# Altium schematic symbol library Operational 运放.SchLib: 101 symbols
Pins are listed as number, name and electrical type; pins without a type are passive.

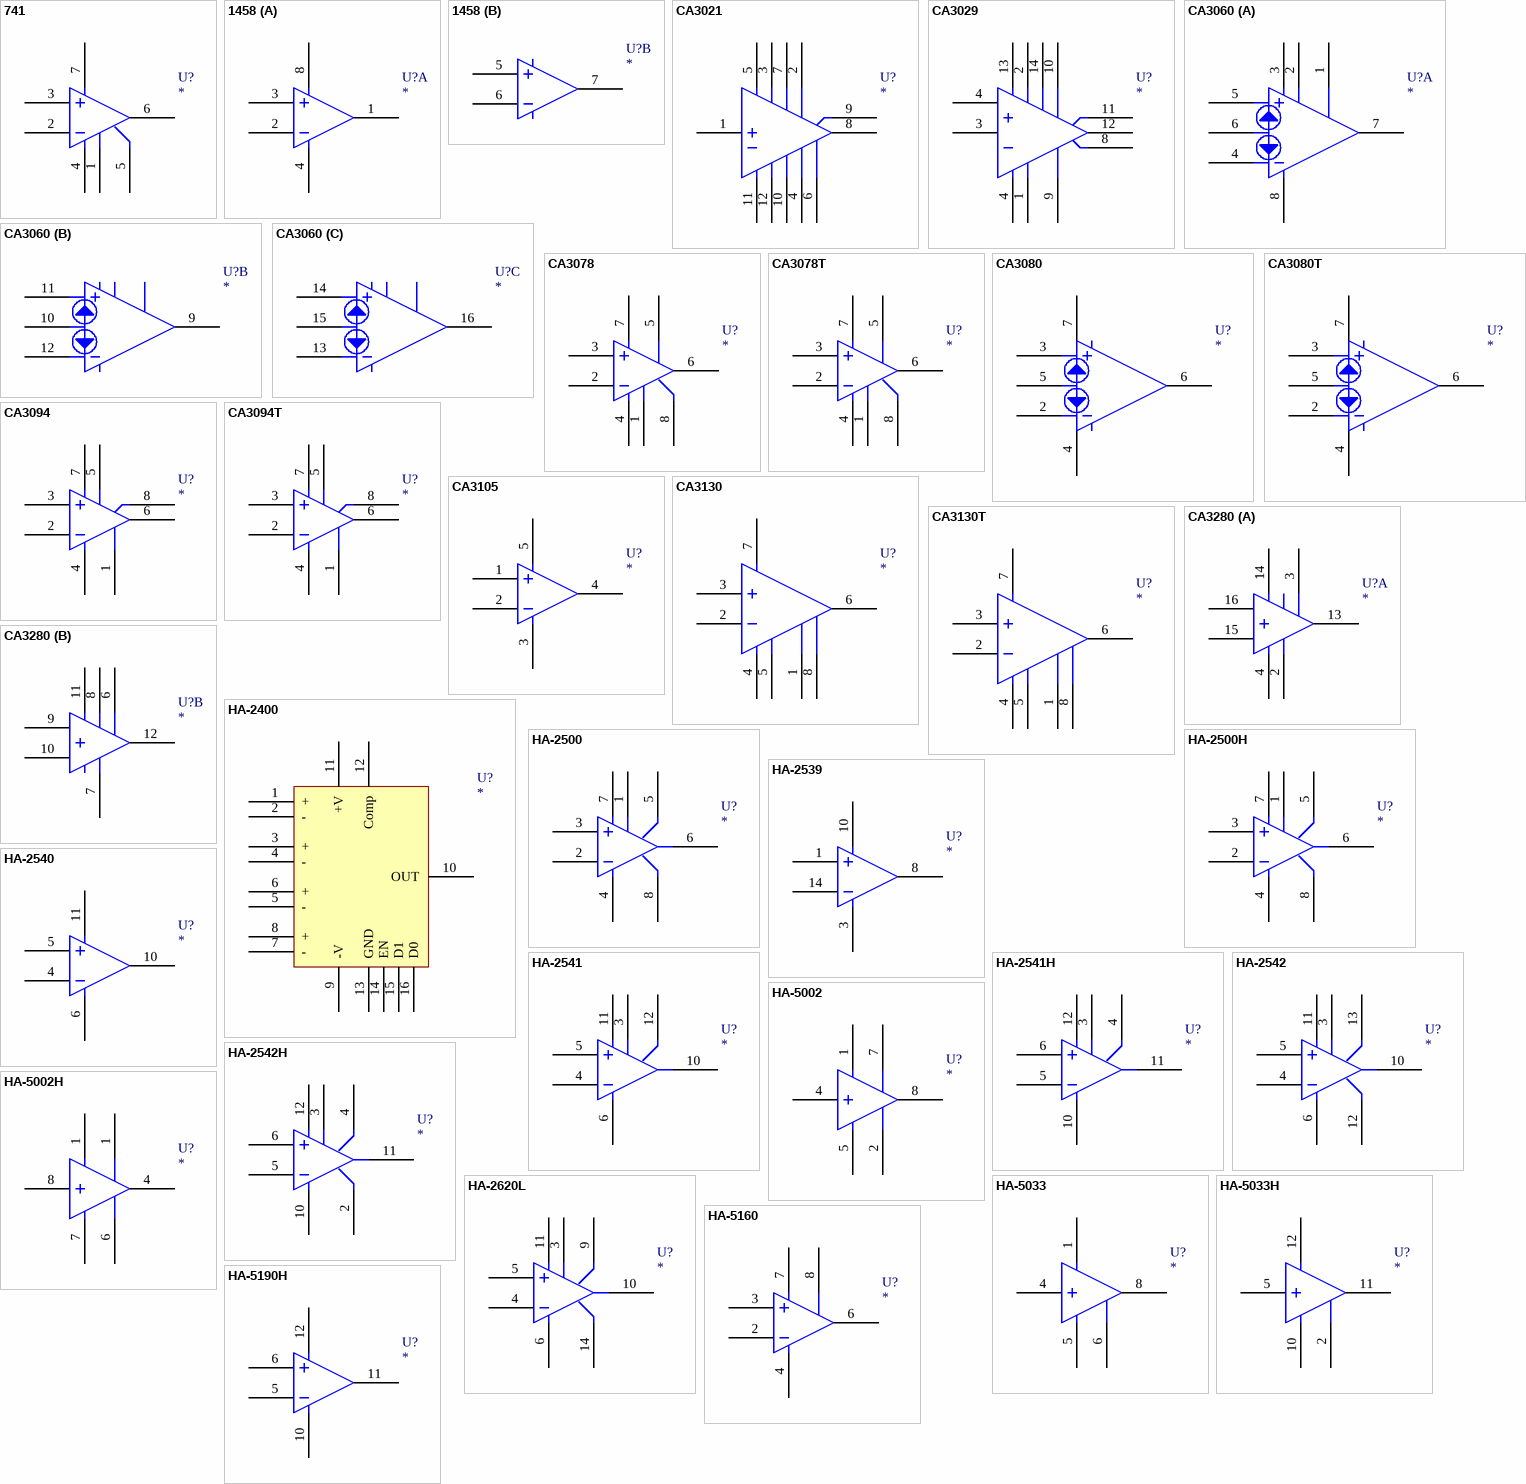
[diagram p0: symbols 741 to HA-5190H]

## 741
designator U?
footprint DIP-8
pins: 1, 2, 3, 4, 5, 6, 7

## 1458
designator U?
footprint DIP-8
part A pins: 1, 2, 3, 4, 8
part B pins: 5, 6, 7

## CA3021
designator U?
footprint METAL12
pins: 1, 2, 3, 4, 5, 6, 7, 8, 9, 10, 11, 12

## CA3029
designator U?
footprint DIP-14
pins: 1, 2, 3, 4, 4, 8, 9, 10, 11, 12, 13, 14

## CA3060
designator U?
footprint DIP-16
part A pins: 1, 2, 3, 4, 5, 6, 7, 8
part B pins: 9, 10, 11, 12
part C pins: 13, 14, 15, 16

## CA3078
designator U?
footprint DIP-8
pins: 1, 2, 3, 4, 5, 6, 7, 8

## CA3078T
designator U?
footprint METAL8
pins: 1, 2, 3, 4, 5, 6, 7, 8

## CA3080
designator U?
footprint DIP-8
pins: 2, 3, 4, 5, 6, 7

## CA3080T
designator U?
footprint METAL8
pins: 2, 3, 4, 5, 6, 7

## CA3094
designator U?
footprint DIP-8
pins: 1, 2, 3, 4, 5, 6, 7, 8

## CA3094T
designator U?
footprint METAL8
pins: 1, 2, 3, 4, 5, 6, 7, 8

## CA3105
designator U?
footprint TO-220-5S
pins: 1, 2, 3, 4, 5

## CA3130
designator U?
footprint DIP-8
pins: 1, 2, 3, 4, 5, 6, 7, 8

## CA3130T
designator U?
footprint METAL8
pins: 1, 2, 3, 4, 5, 6, 7, 8

## CA3280
designator U?
footprint DIP-16
part A pins: 1, 2, 3, 4, 13, 14, 15, 16
part B pins: 6, 7, 8, 9, 10, 11, 12

## HA-2400
designator U?
footprint DIP-16
pins: 1 +, 2 -, 3 +, 4 -, 5 -, 6 +, 7 -, 8 +, 9 -V, 10 OUT, 11 +V, 12 Comp, 13 GND, 14 EN, 15 D1, 16 D0

## HA-2500
designator U?
footprint DIP-8
pins: 1, 2, 3, 4, 5, 6, 7, 8

## HA-2500H
designator U?
footprint METAL8
pins: 1, 2, 3, 4, 5, 6, 7, 8

## HA-2539
designator U?
footprint DIP-14
pins: 1, 3, 8, 10, 14

## HA-2540
designator U?
footprint DIP-14
pins: 4, 5, 6, 10, 11

## HA-2541
designator U?
footprint DIP-14
pins: 3, 4, 5, 6, 10, 11, 12

## HA-2541H
designator U?
footprint METAL12
pins: 3, 4, 5, 6, 10, 11, 12

## HA-2542
designator U?
footprint DIP-14
pins: 3, 4, 5, 6, 10, 11, 12, 13

## HA-2542H
designator U?
footprint METAL12
pins: 2, 3, 4, 5, 6, 10, 11, 12

## HA-2620L
designator U?
footprint DIP-14
pins: 3, 4, 5, 6, 9, 10, 11, 14

## HA-5002
designator U?
footprint DIP-8
pins: 1, 2, 4, 5, 7, 8

## HA-5002H
designator U?
footprint METAL8
pins: 1, 1, 4, 6, 7, 8

## HA-5033
designator U?
footprint DIP-8
pins: 1, 4, 5, 6, 8

## HA-5033H
designator U?
footprint METAL12
pins: 2, 5, 10, 11, 12

## HA-5160
designator U?
footprint METAL8
pins: 2, 3, 4, 6, 7, 8

## HA-5190H
designator U?
footprint METAL12
pins: 5, 6, 10, 11, 12

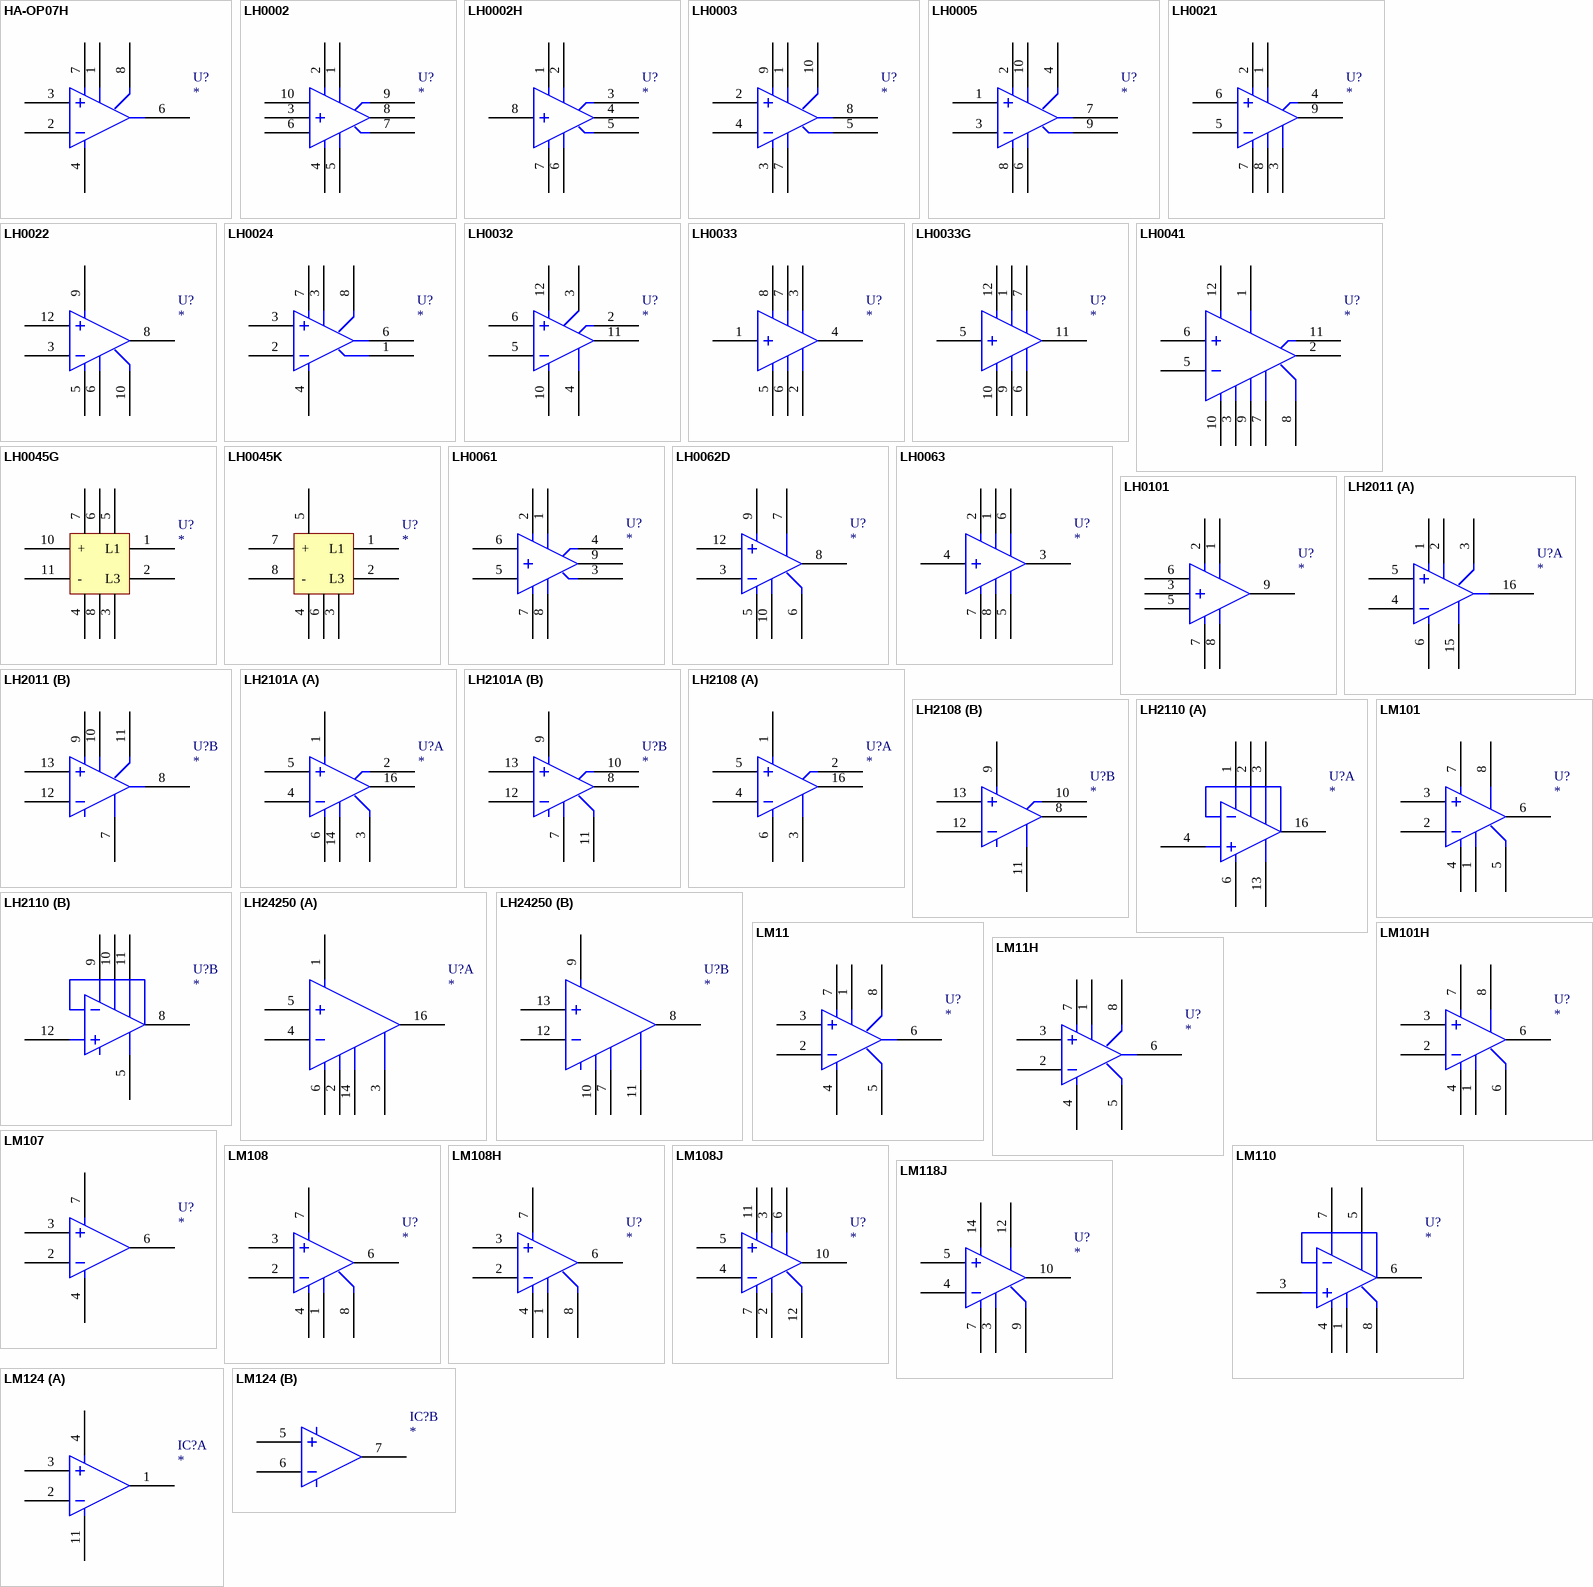
[diagram p1: symbols HA-OP07H to LM124]

## HA-OP07H
designator U?
footprint METAL8
pins: 1, 2, 3, 4, 6, 7, 8

## LH0002
designator U?
footprint DIP-10
pins: 1, 2, 3, 4, 5, 6, 7, 8, 9, 10

## LH0002H
designator U?
footprint METAL8
pins: 1, 2, 3, 4, 5, 6, 7, 8

## LH0003
designator U?
footprint METAL10
pins: 1, 2, 3, 4, 5, 7, 8, 9, 10

## LH0005
designator U?
footprint METAL10
pins: 1, 2, 3, 4, 6, 7, 8, 9, 10

## LH0021
designator U?
footprint TO-3
pins: 1, 2, 3, 4, 5, 6, 7, 8, 9

## LH0022
designator U?
footprint DIP-14
pins: 3, 5, 6, 8, 9, 10, 12

## LH0024
designator U?
footprint METAL8
pins: 1, 2, 3, 3, 4, 6, 7, 8

## LH0032
designator U?
footprint METAL12
pins: 2, 3, 4, 5, 6, 10, 11, 12

## LH0033
designator U?
footprint DIP-8
pins: 1, 2, 3, 4, 5, 6, 7, 8

## LH0033G
designator U?
footprint METAL12
pins: 1, 5, 6, 7, 9, 10, 11, 12

## LH0041
designator U?
footprint METAL12
pins: 1, 2, 3, 5, 6, 7, 8, 9, 10, 11, 12

## LH0045G
designator U?
footprint METAL12
pins: 1 L1, 2 L3, 3, 4, 5, 6, 7, 8, 10 +, 11 -

## LH0045K
designator U?
footprint TO-3
pins: 1 L1, 2 L3, 3, 4, 5, 6, 7 +, 8 -

## LH0061
designator U?
footprint TO-3
pins: 1, 2, 3, 4, 5, 6, 7, 8, 9

## LH0062D
designator U?
footprint DIP-14
pins: 3, 5, 6, 7, 8, 9, 10, 12

## LH0063
designator U?
footprint TO-3
pins: 1, 2, 3, 4, 5, 6, 7, 8

## LH0101
designator U?
footprint TO-3
pins: 1, 2, 3, 5, 6, 7, 8, 9

## LH2011
designator U?
footprint DIP-16
part A pins: 1, 2, 3, 4, 5, 6, 15, 16
part B pins: 7, 8, 9, 10, 11, 12, 13

## LH2101A
designator U?
footprint DIP-16
part A pins: 1, 2, 3, 4, 5, 6, 14, 16
part B pins: 7, 8, 9, 10, 11, 12, 13

## LH2108
designator U?
footprint DIP-16
part A pins: 1, 2, 3, 4, 5, 6, 16
part B pins: 8, 9, 10, 11, 12, 13

## LH2110
designator U?
footprint DIP-16
part A pins: 1, 2, 3, 4, 6, 13, 16
part B pins: 5, 8, 9, 10, 11, 12

## LH24250
designator U?
footprint DIP-16
part A pins: 1, 2, 3, 4, 5, 6, 14, 16
part B pins: 7, 8, 9, 10, 11, 12, 13

## LM11
designator U?
footprint DIP-8
pins: 1, 2, 3, 4, 5, 6, 7, 8

## LM11H
designator U?
footprint METAL8
pins: 1, 2, 3, 4, 5, 6, 7, 8

## LM101
designator U?
footprint DIP-8
pins: 1, 2, 3, 4, 5, 6, 7, 8

## LM101H
designator U?
footprint METAL8
pins: 1, 2, 3, 4, 6, 6, 7, 8

## LM107
designator U?
footprint DIP-8
pins: 2, 3, 4, 6, 7

## LM108
designator U?
footprint DIP-8
pins: 1, 2, 3, 4, 6, 7, 8

## LM108H
designator U?
footprint METAL8
pins: 1, 2, 3, 4, 6, 7, 8

## LM108J
designator U?
footprint DIP-14
pins: 2, 3, 4, 5, 6, 7, 10, 11, 12

## LM110
designator U?
footprint DIP-8
pins: 1, 3, 4, 5, 6, 7, 8

## LM118J
designator U?
footprint DIP-14
pins: 3, 4, 5, 7, 9, 10, 12, 14

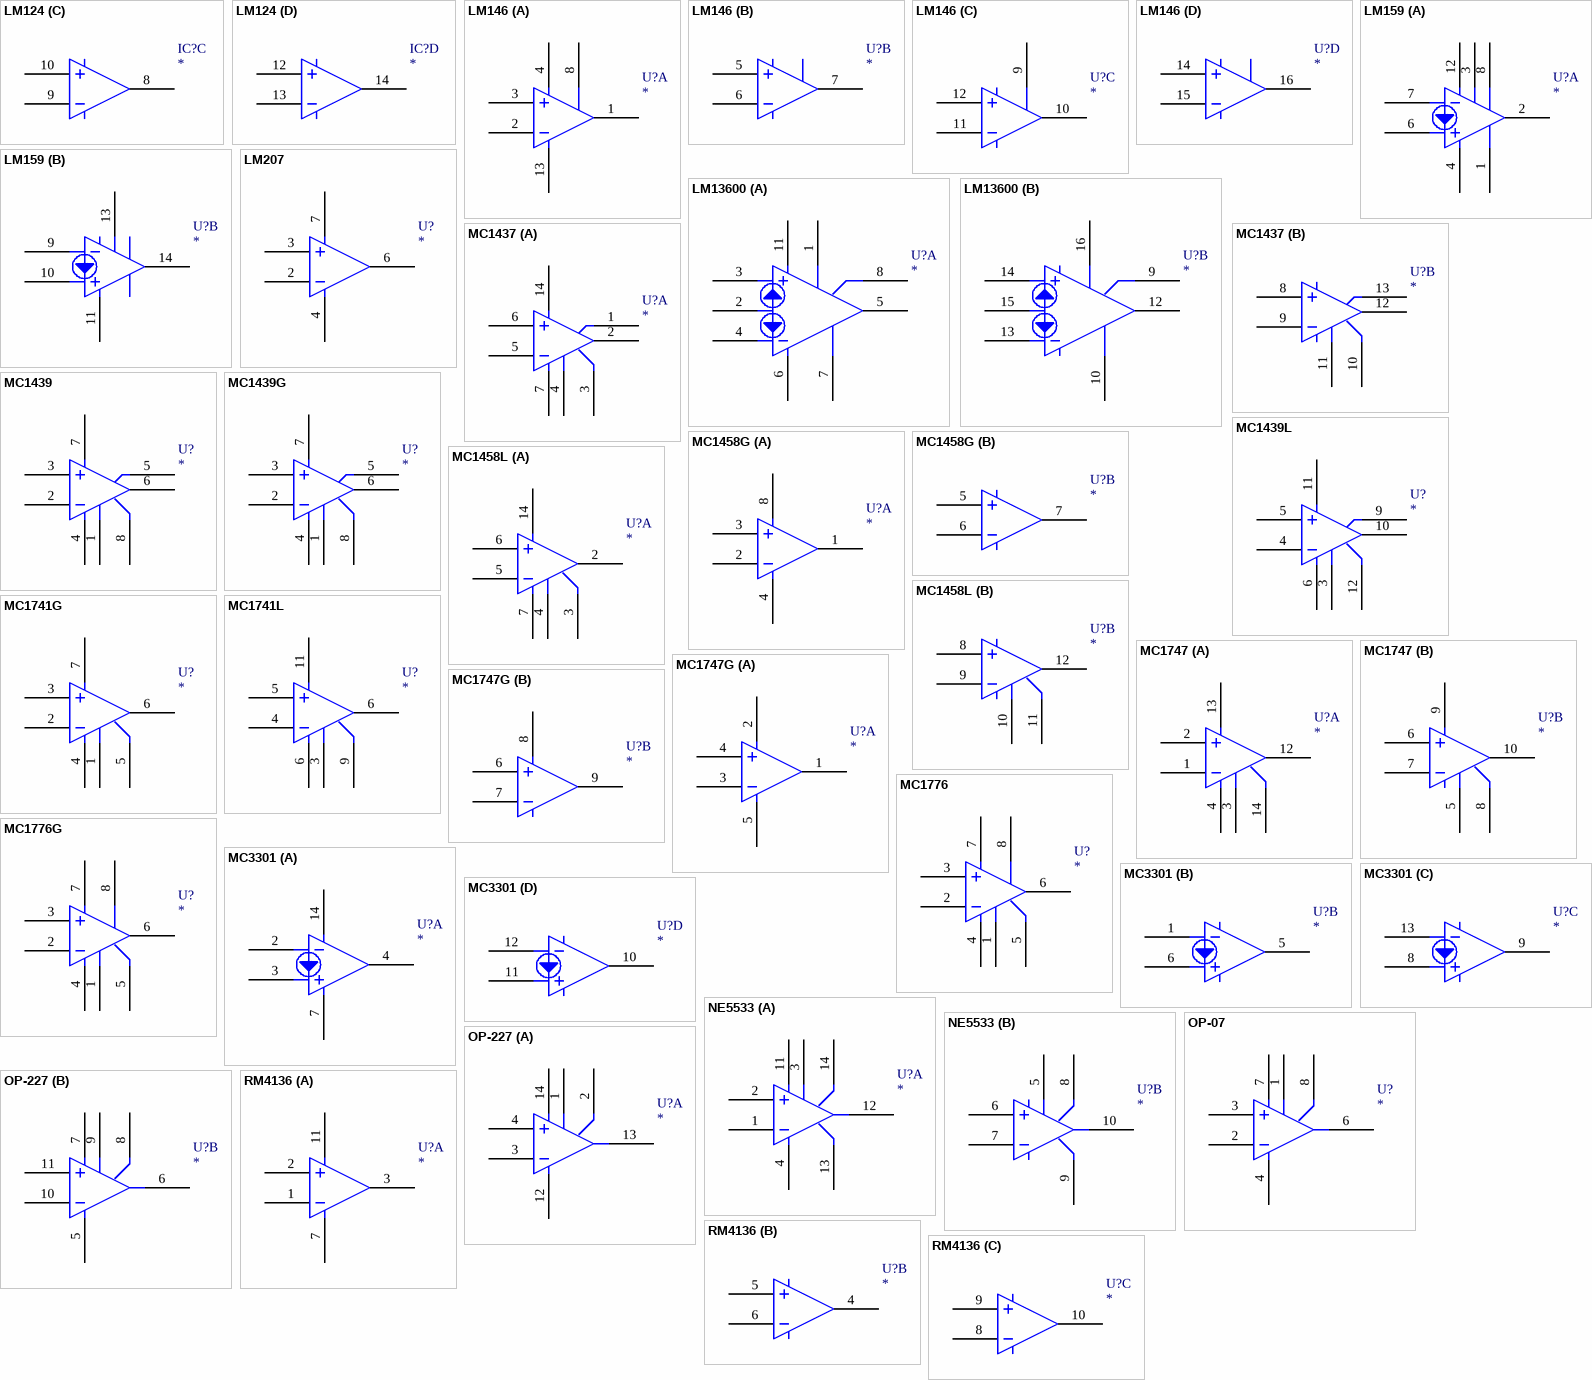
[diagram p2: symbols LM124 to RM4136]

## LM124
designator IC?
footprint DIP-14
part A pins: 1, 2, 3, 4, 11
part B pins: 5, 6, 7
part C pins: 8, 9, 10
part D pins: 12, 13, 14

## LM146
designator U?
footprint DIP-16
part A pins: 1, 2, 3, 4, 8, 13
part B pins: 5, 6, 7
part C pins: 9, 10, 11, 12
part D pins: 14, 15, 16

## LM159
designator U?
footprint DIP-14
part A pins: 1, 2, 3, 4, 6, 7, 8, 12
part B pins: 9, 10, 11, 13, 14

## LM207
designator U?
footprint METAL8
pins: 2, 3, 4, 6, 7

## LM13600
designator U?
footprint DIP-16
part A pins: 1, 2, 3, 4, 5, 6, 7, 8, 11
part B pins: 9, 10, 12, 13, 14, 15, 16

## MC1437
designator U?
footprint DIP-14
part A pins: 1, 2, 3, 4, 5, 6, 7, 14
part B pins: 8, 9, 10, 11, 12, 13

## MC1439
designator U?
footprint DIP-8
pins: 1, 2, 3, 4, 5, 6, 7, 8

## MC1439G
designator U?
footprint METAL8
pins: 1, 2, 3, 4, 5, 6, 7, 8

## MC1439L
designator U?
footprint DIP-14
pins: 3, 4, 5, 6, 9, 10, 11, 12

## MC1458G
designator U?
footprint METAL8
part A pins: 1, 2, 3, 4, 8
part B pins: 5, 6, 7

## MC1458L
designator U?
footprint DIP-14
part A pins: 2, 3, 4, 5, 6, 7, 14
part B pins: 8, 9, 10, 11, 12

## MC1741G
designator U?
footprint METAL8
pins: 1, 2, 3, 4, 5, 6, 7

## MC1741L
designator U?
footprint DIP-14
pins: 3, 4, 5, 6, 6, 9, 11

## MC1747
designator U?
footprint DIP-14
part A pins: 1, 2, 3, 4, 12, 13, 14
part B pins: 5, 6, 7, 8, 9, 10

## MC1747G
designator U?
footprint METAL10
part A pins: 1, 2, 3, 4, 5
part B pins: 6, 7, 8, 9

## MC1776
designator U?
footprint DIP-8
pins: 1, 2, 3, 4, 5, 6, 7, 8

## MC1776G
designator U?
footprint METAL8
pins: 1, 2, 3, 4, 5, 6, 7, 8

## MC3301
designator U?
footprint DIP-14
part A pins: 2, 3, 4, 7, 14
part B pins: 1, 5, 6
part C pins: 8, 9, 13
part D pins: 10, 11, 12

## NE5533
designator U?
footprint DIP-14
part A pins: 1, 2, 3, 4, 11, 12, 13, 14
part B pins: 5, 6, 7, 8, 9, 10

## OP-07
designator U?
footprint DIP-8
pins: 1, 2, 3, 4, 6, 7, 8

## OP-227
designator U?
footprint DIP-14
part A pins: 1, 2, 3, 4, 12, 13, 14
part B pins: 5, 6, 7, 8, 9, 10, 11

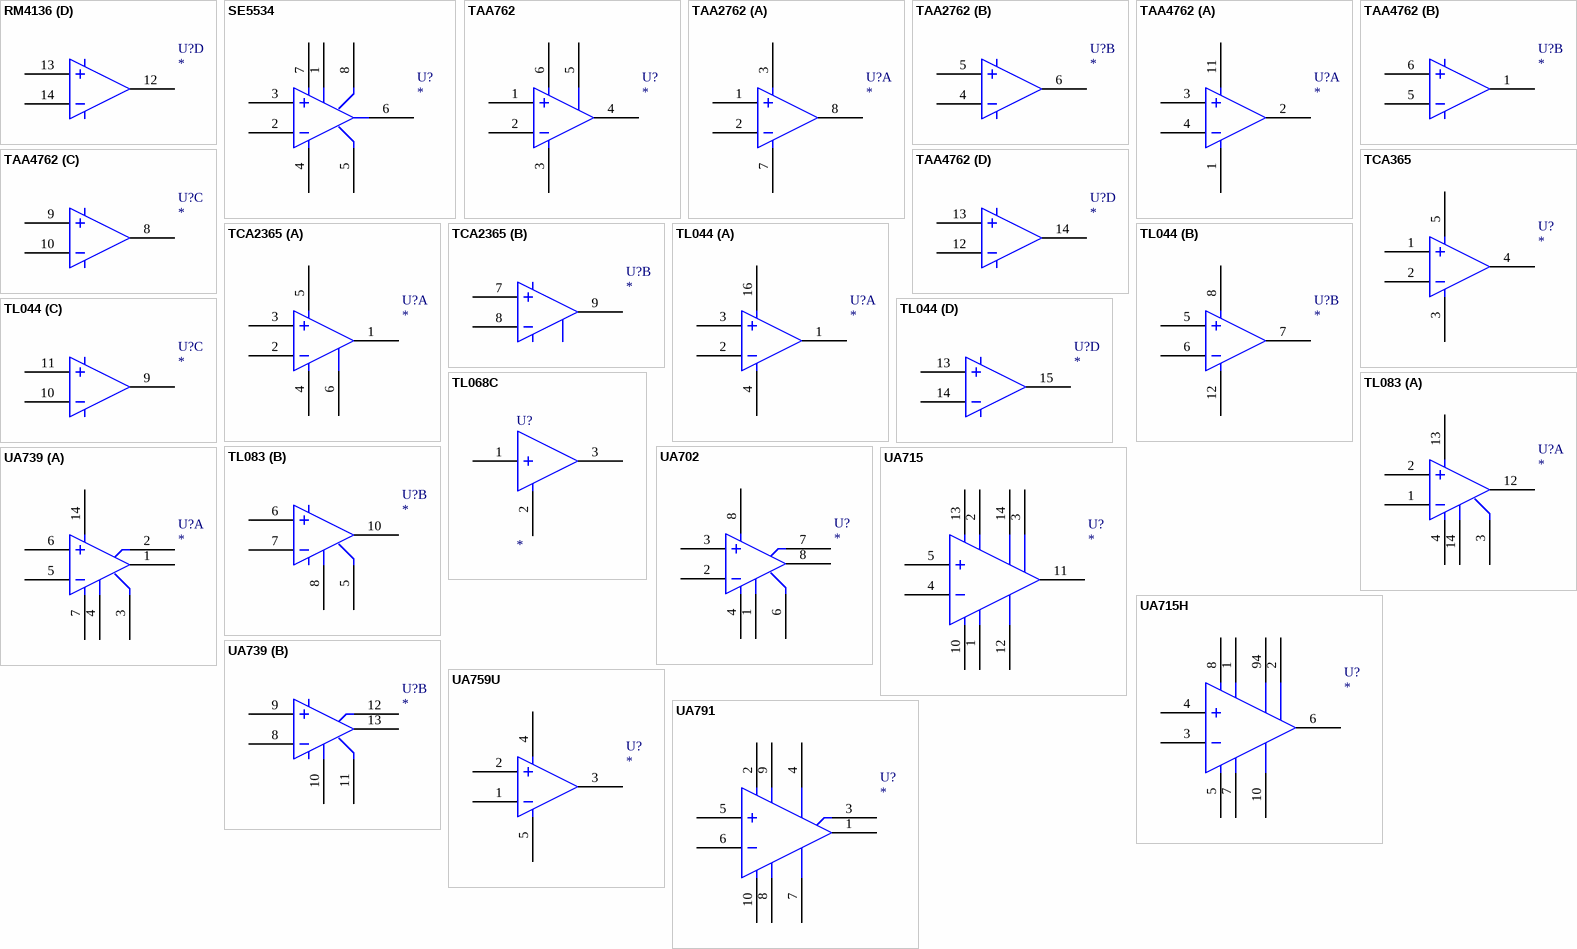
[diagram p3: symbols RM4136 to UA791]

## RM4136
designator U?
footprint DIP-14
part A pins: 1, 2, 3, 7, 11
part B pins: 4, 5, 6
part C pins: 8, 9, 10
part D pins: 12, 13, 14

## SE5534
designator U?
footprint DIP-8
pins: 1, 2, 3, 4, 5, 6, 7, 8

## TAA762
designator U?
footprint DIP-6
pins: 1, 2, 3, 4, 5, 6

## TAA2762
designator U?
footprint DIP-8
part A pins: 1, 2, 3, 7, 8
part B pins: 4, 5, 6

## TAA4762
designator U?
footprint DIP-14
part A pins: 1, 2, 3, 4, 11
part B pins: 1, 5, 6
part C pins: 8, 9, 10
part D pins: 12, 13, 14

## TCA365
designator U?
footprint TO-220-5S
pins: 1, 2, 3, 4, 5

## TCA2365
designator U?
footprint SIP9
part A pins: 1, 2, 3, 4, 5, 6
part B pins: 7, 8, 9

## TL044
designator U?
footprint DIP-16
part A pins: 1, 2, 3, 4, 16
part B pins: 5, 6, 7, 8, 12
part C pins: 9, 10, 11
part D pins: 13, 14, 15

## TL068C
designator U?
footprint TO-92A
pins: 1, 2, 3

## TL083
designator U?
footprint DIP-14
part A pins: 1, 2, 3, 4, 12, 13, 14
part B pins: 5, 6, 7, 8, 10

## UA702
designator U?
footprint DIP-8
pins: 1, 2, 3, 4, 6, 7, 8, 8

## UA715
designator U?
footprint DIP-14
pins: 1, 2, 3, 4, 5, 10, 11, 12, 13, 14

## UA715H
designator U?
footprint METAL10
pins: 1, 2, 3, 4, 5, 6, 7, 8, 10, 94

## UA739
designator U?
footprint DIP-14
part A pins: 1, 2, 3, 4, 5, 6, 7, 14
part B pins: 8, 9, 10, 11, 12, 13

## UA759U
designator U?
footprint MOLDED4
pins: 1, 2, 3, 4, 5

## UA791
designator U?
footprint METAL10
pins: 1, 2, 3, 4, 5, 6, 7, 8, 9, 10